# Altium integrated library MSASU32MSB5106KPNA01.IntLib: 1 symbol
Pins are listed as number, name and electrical type; pins without a type are passive.

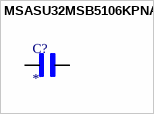
[diagram p0: symbol MSASU32MSB5106KPNA01]

## MSASU32MSB5106KPNA01
designator C?
10uF 50V 10% Multilayer Ceramic Capacitor X5R 1210 (3225 Metric); MF: Taiyo Yuden; MP: MSASU32MSB5106KPNA01; SnapEDA_Link: https://www.snapeda.com/parts/MSASU32MSB5106KPNA01/Taiyo+Yuden/view-part/?ref=snap; Package: 3225-2 TAIYO; Value: *; Check_prices: https://www.snapeda.com/parts/MSASU32MSB5106KPNA01/Taiyo+Yuden/view-part/?ref=eda
footprint CAPC3225X270N
pins: 1, 2